# Altium footprint library PCB - CONNECTOR - SAMTEC TSW-102-07-T-D_X1.PCBLIB: 1 footprints
Each footprint in its own frame and in the unit in brackets; x right, y up, seen from the top. Pads: shape width x height; smd on the part's side, far side on the other; paste and mask are expansions set on the pad; w line width, h text height; cw(c..) or ccw(c..) is an arc to the next point about the centre after c.
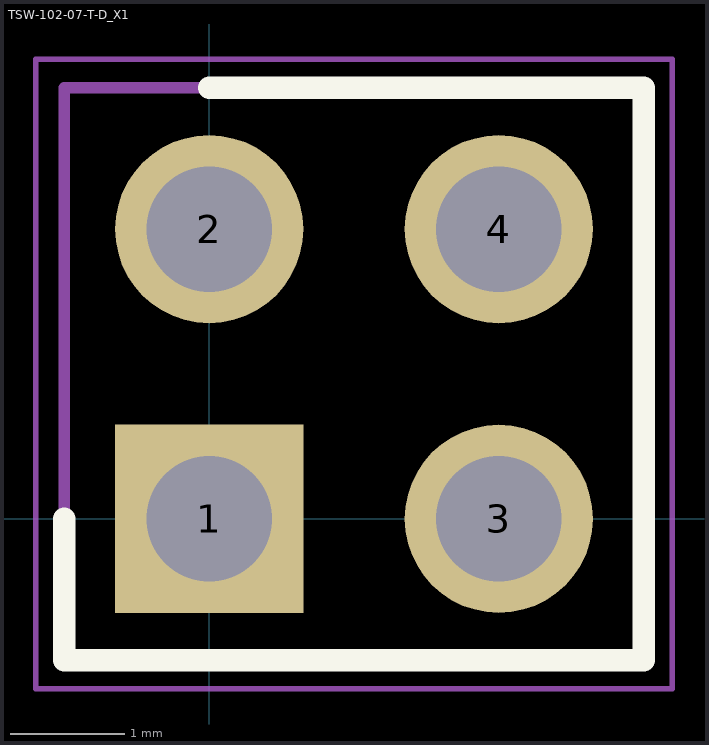
[diagram p0: the footprint, top view; thin cyan lines are the x and y axes]

## TSW-102-07-T-D_X1 [mm]
pads (4):
  rect 1.65x1.65 hole 1.1: 1(0,0)
  round 1.65 hole 1.1: 2(0,2.54) 3(2.54,0) 4(2.54,2.54)
Top Overlay:
  lines w0.2: -1.27,0 -1.27,-1.24 3.81,-1.24 3.81,3.78 0,3.78
Mechanical 13:
  lines w0.1: -1.27,-1.24 3.81,-1.24 3.81,3.78 -1.27,3.78 -1.27,-1.24
Mechanical 15:
  lines w0.05: -1.52,-1.49 4.06,-1.49 4.06,4.03 -1.52,4.03 -1.52,-1.49
3D body "HMTSW-102-07-T-D-250.stp": height 8.64, standoff -2.28, extent -1.27,-1.24 3.81,3.78